# EAGLE library part C8051F122 (library micro-silabs)
100MIPS, 128K Flash, 10-bit ADC, 100-Pin MCU
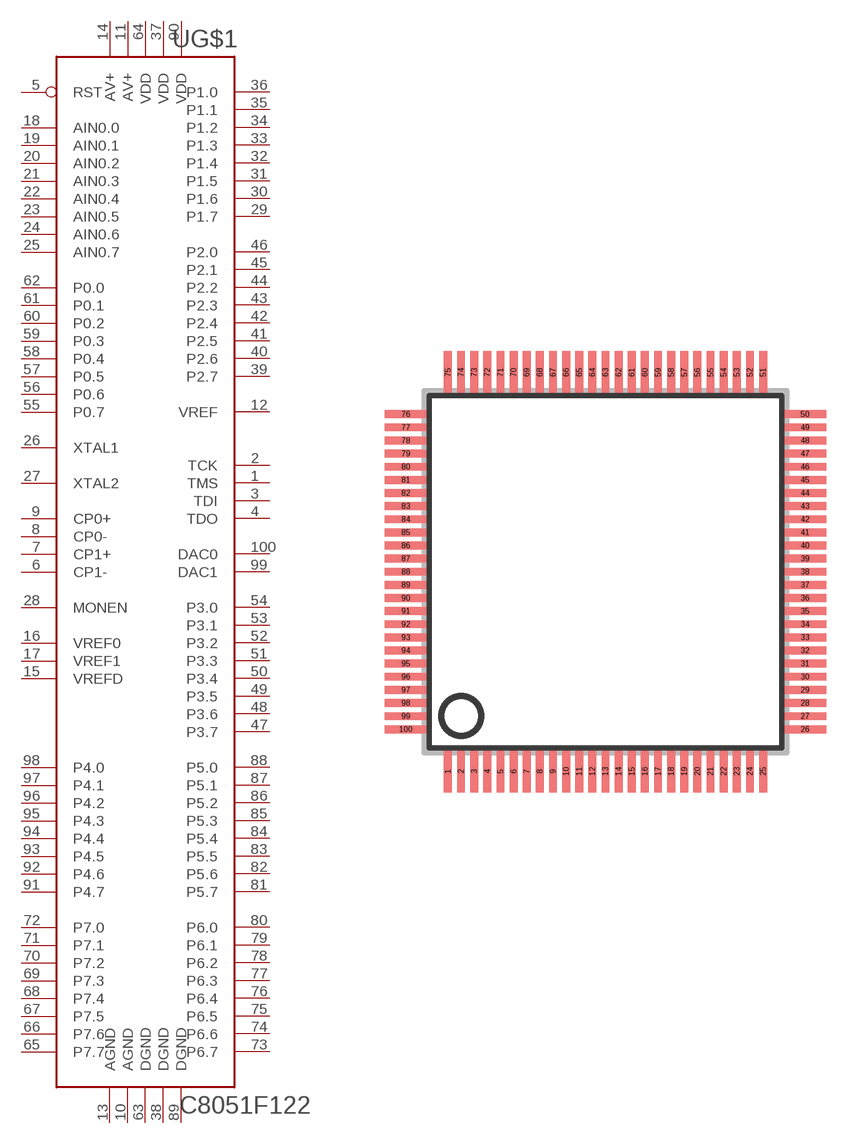
[diagram p6: symbol with the pads of TQFP100; footprint TQFP100]

Designator prefix -; gates G$1=C8051FX2X_100 G$2=AV G$3=VDD G$4=VDD G$5=AGND G$6=DGND G$7=DGND

## C8051F122  [TQFP100]
1  G$1:TMS  in
2  G$1:TCK  in
3  G$1:TDI  in
4  G$1:TDO  out
5  G$1:RST
6  G$1:CP1-  in
7  G$1:CP1+  in
8  G$1:CP0-  in
9  G$1:CP0+  in
10  G$1:AGND  pwr
11  G$1:AV+  pwr
12  G$1:VREF  out
13  G$5:AGND  pwr
14  G$2:AV+  pwr
15  G$1:VREFD  in
16  G$1:VREF0  in
17  G$1:VREF1  in
18  G$1:AIN0.0  in
19  G$1:AIN0.1  in
20  G$1:AIN0.2  in
21  G$1:AIN0.3  in
22  G$1:AIN0.4  in
23  G$1:AIN0.5  in
24  G$1:AIN0.6  in
25  G$1:AIN0.7  in
26  G$1:XTAL1  in
27  G$1:XTAL2  out
28  G$1:MONEN  in
29  G$1:P1.7
30  G$1:P1.6
31  G$1:P1.5
32  G$1:P1.4
33  G$1:P1.3
34  G$1:P1.2
35  G$1:P1.1
36  G$1:P1.0
37  G$1:VDD  pwr
38  G$1:DGND  pwr
39  G$1:P2.7
40  G$1:P2.6
41  G$1:P2.5
42  G$1:P2.4
43  G$1:P2.3
44  G$1:P2.2
45  G$1:P2.1
46  G$1:P2.0
47  G$1:P3.7
48  G$1:P3.6
49  G$1:P3.5
50  G$1:P3.4
51  G$1:P3.3
52  G$1:P3.2
53  G$1:P3.1
54  G$1:P3.0
55  G$1:P0.7
56  G$1:P0.6
57  G$1:P0.5
58  G$1:P0.4
59  G$1:P0.3
60  G$1:P0.2
61  G$1:P0.1
62  G$1:P0.0
63  G$6:DGND  pwr
64  G$3:VDD  pwr
65  G$1:P7.7
66  G$1:P7.6
67  G$1:P7.5
68  G$1:P7.4
69  G$1:P7.3
70  G$1:P7.2
71  G$1:P7.1
72  G$1:P7.0
73  G$1:P6.7
74  G$1:P6.6
75  G$1:P6.5
76  G$1:P6.4
77  G$1:P6.3
78  G$1:P6.2
79  G$1:P6.1
80  G$1:P6.0
81  G$1:P5.7
82  G$1:P5.6
83  G$1:P5.5
84  G$1:P5.4
85  G$1:P5.3
86  G$1:P5.2
87  G$1:P5.1
88  G$1:P5.0
89  G$7:DGND  pwr
90  G$4:VDD  pwr
91  G$1:P4.7
92  G$1:P4.6
93  G$1:P4.5
94  G$1:P4.4
95  G$1:P4.3
96  G$1:P4.2
97  G$1:P4.1
98  G$1:P4.0
99  G$1:DAC1  out
100  G$1:DAC0  out

## Footprint TQFP100 (pad centres in mm)
TQFP100 Thin quad flat pack, square
smd 0.3 x 1.6: 1 -6,-7.6; 2 -5.5,-7.6; 3 -5,-7.6; 4 -4.5,-7.6; 5 -4,-7.6; 6 -3.5,-7.6; 7 -3,-7.6; 8 -2.5,-7.6; 9 -2,-7.6; 10 -1.5,-7.6; 11 -1,-7.6; 12 -0.5,-7.6; 13 0,-7.6; 14 0.5,-7.6; 15 1,-7.6; 16 1.5,-7.6; 17 2,-7.6; 18 2.5,-7.6; 19 3,-7.6; 20 3.5,-7.6; 21 4,-7.6; 22 4.5,-7.6; 23 5,-7.6; 24 5.5,-7.6; 25 6,-7.6; 51 6,7.6; 52 5.5,7.6; 53 5,7.6; 54 4.5,7.6; 55 4,7.6; 56 3.5,7.6; 57 3,7.6; 58 2.5,7.6; 59 2,7.6; 60 1.5,7.6; 61 1,7.6; 62 0.5,7.6; 63 0,7.6; 64 -0.5,7.6; 65 -1,7.6; 66 -1.5,7.6; 67 -2,7.6; 68 -2.5,7.6; 69 -3,7.6; 70 -3.5,7.6; 71 -4,7.6; 72 -4.5,7.6; 73 -5,7.6; 74 -5.5,7.6; 75 -6,7.6
smd 1.6 x 0.3: 26 7.6,-6; 27 7.6,-5.5; 28 7.6,-5; 29 7.6,-4.5; 30 7.6,-4; 31 7.6,-3.5; 32 7.6,-3; 33 7.6,-2.5; 34 7.6,-2; 35 7.6,-1.5; 36 7.6,-1; 37 7.6,-0.5; 38 7.6,0; 39 7.6,0.5; 40 7.6,1; 41 7.6,1.5; 42 7.6,2; 43 7.6,2.5; 44 7.6,3; 45 7.6,3.5; 46 7.6,4; 47 7.6,4.5; 48 7.6,5; 49 7.6,5.5; 50 7.6,6; 76 -7.6,6; 77 -7.6,5.5; 78 -7.6,5; 79 -7.6,4.5; 80 -7.6,4; 81 -7.6,3.5; 82 -7.6,3; 83 -7.6,2.5; 84 -7.6,2; 85 -7.6,1.5; 86 -7.6,1; 87 -7.6,0.5; 88 -7.6,0; 89 -7.6,-0.5; 90 -7.6,-1; 91 -7.6,-1.5; 92 -7.6,-2; 93 -7.6,-2.5; 94 -7.6,-3; 95 -7.6,-3.5; 96 -7.6,-4; 97 -7.6,-4.5; 98 -7.6,-5; 99 -7.6,-5.5; 100 -7.6,-6